# EAGLE library part TDA2005 (library #PaJa_30)
Zesilovac - 2 x 10W, 18V (pro autoradio)
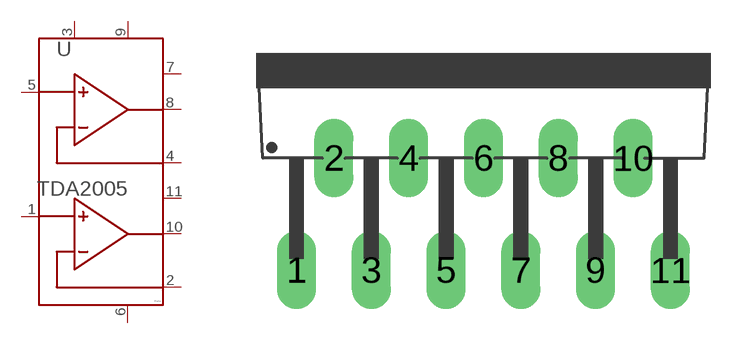
[diagram p58: symbol with the pads of MULTIWATT11; footprint MULTIWATT11]

Designator prefix -

## TDA2005  [MULTIWATT11]
1  +IN1  in
2  -IN1  in
3  SVRR  pas
4  -IN2  in
5  +IN2  in
6  GND  pwr
7  BOOTSTRAP2  pas
8  OUT2  out
9  +VCC  pwr
10  OUT1  out
11  BOOTSTRAP1  pas

## Footprint MULTIWATT11 (pad centres in mm)
drill 1 pad 1.778 long: 1 -8.5,-5.1; 2 -6.8,0; 3 -5.1,-5.1; 4 -3.4,0; 5 -1.7,-5.1; 6 0,0; 7 1.7,-5.1; 8 3.4,0; 9 5.1,-5.1; 10 6.8,0; 11 8.5,-5.1